# Altium schematic symbol library CatridgeFuse.SchLib: 1 symbol
Pins are listed as number, name and electrical type; pins without a type are passive.

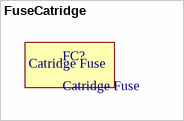
[diagram p0: symbol FuseCatridge]

## FuseCatridge
designator FC?, comment Catridge Fuse
Digi-Key Part Number: *
footprint Fuse Catridge